# Altium footprint library D_DO214AC(SMA).PcbLib: 1 footprints
Each footprint in its own frame and in the unit in brackets; x right, y up, seen from the top. Pads: shape width x height; smd on the part's side, far side on the other; paste and mask are expansions set on the pad; w line width, h text height; cw(c..) or ccw(c..) is an arc to the next point about the centre after c.
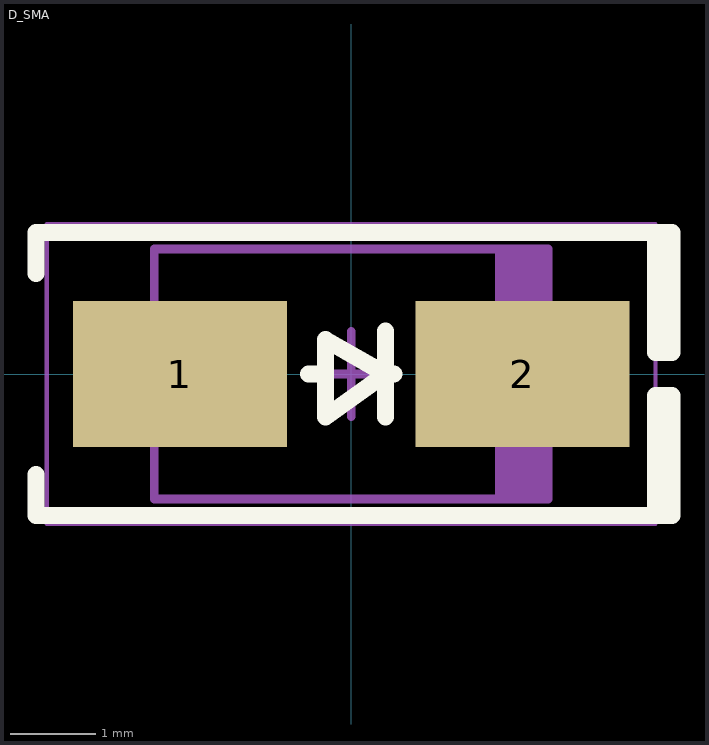
[diagram p0: the footprint, top view; thin cyan lines are the x and y axes]

## D_SMA [mm]
pads (2):
  rect 2.5x1.7 smd: 1(-2,0) 2(2,0)
Top Overlay:
  lines w0.2: -3.683,-1.175 -3.683,-1.651 3.75,-1.651 3.75,-0.254 3.556,-0.254 3.556,-1.651 ; -3.683,1.175 -3.683,1.651 3.75,1.651 3.75,0.254 3.556,0.254 3.556,1.651 ; -0.5,0 -0.3,0 ; 0.4,-0.5 0.4,0.5 ; 0.5,0 0.4,0 ; 0.4,0 -0.3,-0.5 -0.3,0.4 0.4,0
Mechanical 13:
  rectangle: 1.681,-1.46 2.3,1.46
  lines w0.1: -2.3,-1.46 2.3,-1.46 2.3,1.46 -2.3,1.46 -2.3,-1.46
Mechanical 15:
  lines w0.05: -3.556,-1.75 3.556,-1.75 3.556,1.75 -3.556,1.75 -3.556,-1.75
  lines w0.1: -0.5,0 0.5,0 ; 0,-0.5 0,0.5
3D body "SMA.STEP": height 2.4, standoff 0, extent -2.6,-1.375 2.6,1.375